# Altium integrated library Analog Devices Operational Amplifiers.IntLib: 2102 symbols (part 18 of 70)
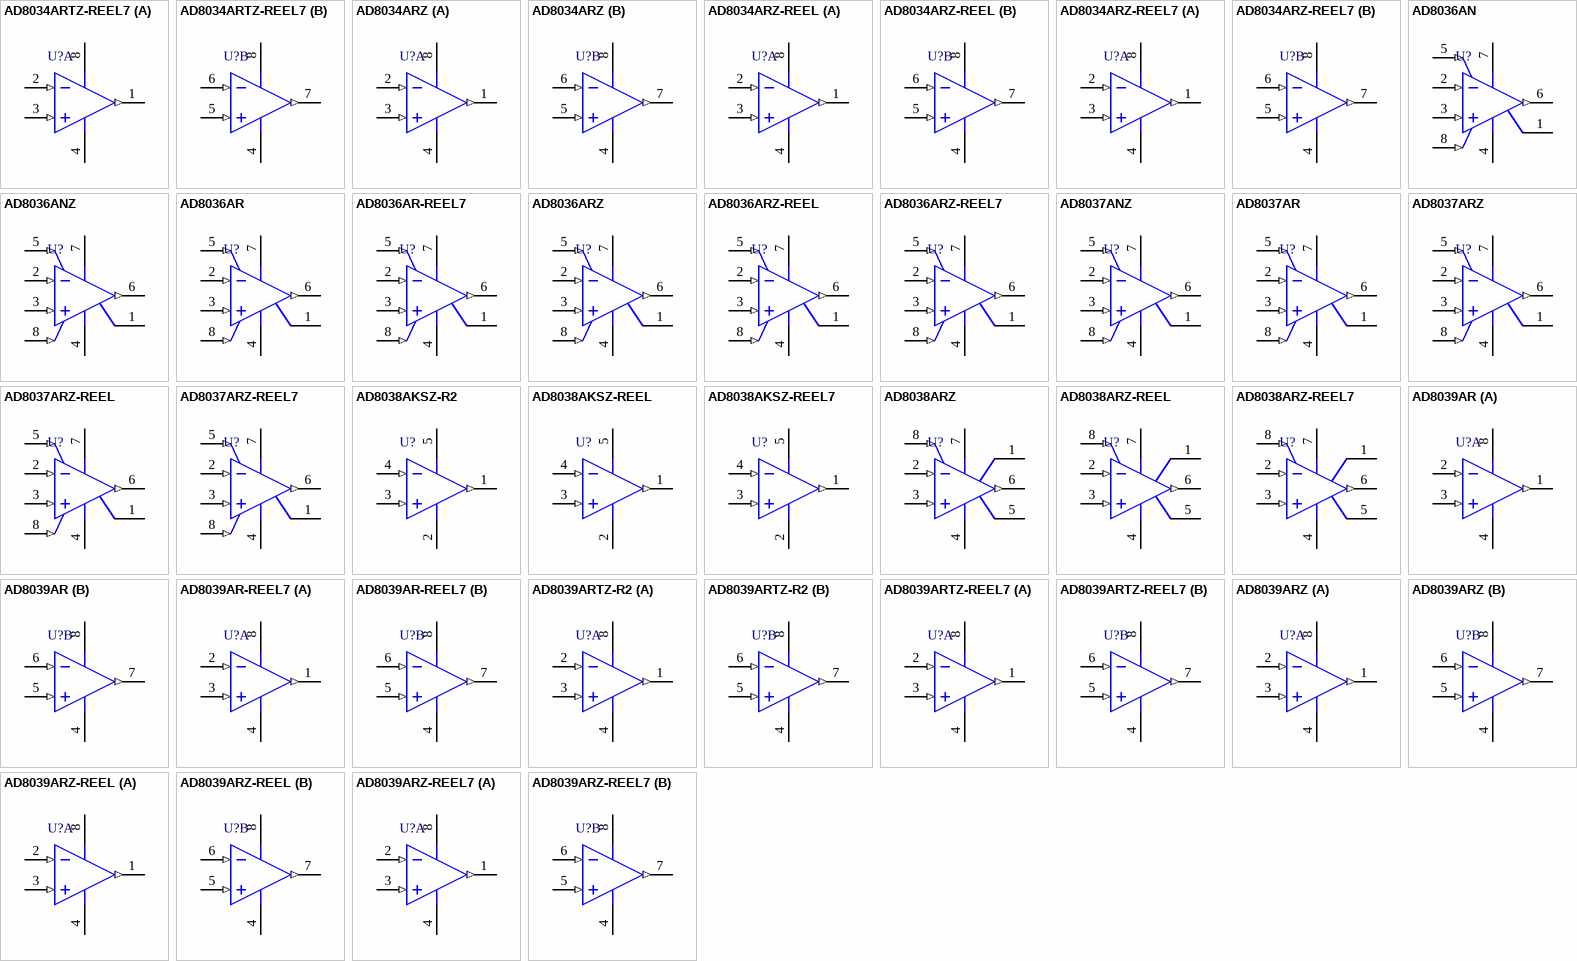
[diagram p131: symbols AD8034ARTZ-REEL7 to AD8039ARZ-REEL7]

## AD8038ARZ
designator U?
Single Channel Low Power Operational Amplifier, 350 MHz BW, 425 V/us SR, Industrial, 8-pin SOIC (R-8), Tube; Generic Part Number: AD8038; Manufacturer: Analog Devices; PartNumber: AD8038ARZ; Amplifiers Per Package: 1; Input Bias Current: 400nA; Input Offset Voltage: 500uV; Iq/Amp: 1.5mA; Small Signal Bandwidth: 350MHz; V Span Max: 12V; V Span Min: 3V; DatasheetVersion: Rev. G; PackageVersion: 060506-A; PackageReference: R-8; PackageDescription: 8-Pin Standard Small Outline Package, Body 3.9 x 4.9 mm, Pitch 1.27 mm; Supplier 1: Digi-Key; Supplier Part Number 1: AD8038ARZ-ND; Supplier 2: Farnell; Supplier Part Number 2: 1838881; Supplier 3: Newark; Supplier Part Number 3: 59K6260; Slew Rate: 425V/us; Mounting Technology: Surface Mount; Code_JEDEC: MS-012-AA; ComponentLink1Description: Manufacturer URL; ComponentLink1URL: http://www.analog.com/en/index.html; ComponentLink2Description: Datasheet; ComponentLink2URL: http://www.analog.com/static/imported-files/data_sheets/AD8038_8039.pdf; ComponentLink3Description: Package Specification; ComponentLink3URL: http://www.analog.com/static/imported-files/packages/PKG_PDF/SOIC_Narrow%20(R)/R_8.pdf; ComponentLink4Description: Reference Circuit; ComponentLink4URL: http://www.analog.com/en/all-operational-amplifiers-op-amps/operational-amplifiers-op-amps/ad8038/products/product.html#product-recommendations
footprint ADI-R-8_N (SOIC, 8-Leads, Body 4.9x3.9mm, Pitch 1.27mm, IPC Medium Density)
footprint ADI-R-8_L (SOIC, 8-Leads, Body 4.9x3.9mm, Pitch 1.27mm, IPC High Density)
footprint ADI-R-8_M (SOIC, 8-Leads, Body 4.9x3.9mm, Pitch 1.27mm, IPC Low Density)
pins: 1 NC, 2 -IN (in), 3 +IN (in), 4 -VS (power), 5 NC, 6 VOUT (out), 7 +VS (power), 8 ~{DISABLE} (in)

## AD8038ARZ-REEL
designator U?
Single Channel Low Power Operational Amplifier, 350 MHz BW, 425 V/us SR, Industrial, 8-pin SOIC (R-8), Reel; Generic Part Number: AD8038; Manufacturer: Analog Devices; PartNumber: AD8038ARZ-REEL; Amplifiers Per Package: 1; Input Bias Current: 400nA; Input Offset Voltage: 500uV; Iq/Amp: 1.5mA; Small Signal Bandwidth: 350MHz; V Span Max: 12V; V Span Min: 3V; DatasheetVersion: Rev. G; PackageVersion: 060506-A; PackageReference: R-8; PackageDescription: 8-Pin Standard Small Outline Package, Body 3.9 x 4.9 mm, Pitch 1.27 mm; Supplier 1: Digi-Key; Supplier Part Number 1: AD8038ARZ-REEL-ND; Supplier 2: Newark; Supplier Part Number 2: 59K6261; Slew Rate: 425V/us; Mounting Technology: Surface Mount; Code_JEDEC: MS-012-AA; ComponentLink1Description: Manufacturer URL; ComponentLink1URL: http://www.analog.com/en/index.html; ComponentLink2Description: Datasheet; ComponentLink2URL: http://www.analog.com/static/imported-files/data_sheets/AD8038_8039.pdf; ComponentLink3Description: Package Specification; ComponentLink3URL: http://www.analog.com/static/imported-files/packages/PKG_PDF/SOIC_Narrow%20(R)/R_8.pdf; ComponentLink4Description: Reference Circuit; ComponentLink4URL: http://www.analog.com/en/all-operational-amplifiers-op-amps/operational-amplifiers-op-amps/ad8038/products/product.html#product-recommendations
footprint ADI-R-8_N (SOIC, 8-Leads, Body 4.9x3.9mm, Pitch 1.27mm, IPC Medium Density)
footprint ADI-R-8_L (SOIC, 8-Leads, Body 4.9x3.9mm, Pitch 1.27mm, IPC High Density)
footprint ADI-R-8_M (SOIC, 8-Leads, Body 4.9x3.9mm, Pitch 1.27mm, IPC Low Density)
pins: 1 NC, 2 -IN (in), 3 +IN (in), 4 -VS (power), 5 NC, 6 VOUT (out), 7 +VS (power), 8 ~{DISABLE} (in)

## AD8038ARZ-REEL7
designator U?
Single Channel Low Power Operational Amplifier, 350 MHz BW, 425 V/us SR, Industrial, 8-pin SOIC (R-8), Reel; Generic Part Number: AD8038; Manufacturer: Analog Devices; PartNumber: AD8038ARZ-REEL7; Amplifiers Per Package: 1; Input Bias Current: 400nA; Input Offset Voltage: 500uV; Iq/Amp: 1.5mA; Small Signal Bandwidth: 350MHz; V Span Max: 12V; V Span Min: 3V; DatasheetVersion: Rev. G; PackageVersion: 060506-A; PackageReference: R-8; PackageDescription: 8-Pin Standard Small Outline Package, Body 3.9 x 4.9 mm, Pitch 1.27 mm; Supplier 1: Digi-Key; Supplier Part Number 1: AD8038ARZ-REEL7-ND; Slew Rate: 425V/us; Mounting Technology: Surface Mount; Code_JEDEC: MS-012-AA; ComponentLink1Description: Manufacturer URL; ComponentLink1URL: http://www.analog.com/en/index.html; ComponentLink2Description: Datasheet; ComponentLink2URL: http://www.analog.com/static/imported-files/data_sheets/AD8038_8039.pdf; ComponentLink3Description: Package Specification; ComponentLink3URL: http://www.analog.com/static/imported-files/packages/PKG_PDF/SOIC_Narrow%20(R)/R_8.pdf; ComponentLink4Description: Reference Circuit; ComponentLink4URL: http://www.analog.com/en/all-operational-amplifiers-op-amps/operational-amplifiers-op-amps/ad8038/products/product.html#product-recommendations
footprint ADI-R-8_N (SOIC, 8-Leads, Body 4.9x3.9mm, Pitch 1.27mm, IPC Medium Density)
footprint ADI-R-8_L (SOIC, 8-Leads, Body 4.9x3.9mm, Pitch 1.27mm, IPC High Density)
footprint ADI-R-8_M (SOIC, 8-Leads, Body 4.9x3.9mm, Pitch 1.27mm, IPC Low Density)
pins: 1 NC, 2 -IN (in), 3 +IN (in), 4 -VS (power), 5 NC, 6 VOUT (out), 7 +VS (power), 8 ~{DISABLE} (in)

## AD8039AR
designator U?
Double Channel Low Power Operational Amplifier, 350 MHz BW, 425 V/us SR, Industrial, 8-pin SOIC (R-8), Tube; Generic Part Number: AD8039; Manufacturer: Analog Devices; PartNumber: AD8039AR; Amplifiers Per Package: 2; Input Bias Current: 400nA; Input Offset Voltage: 500uV; Iq/Amp: 1.5mA; Small Signal Bandwidth: 350MHz; V Span Max: 12V; V Span Min: 3V; DatasheetVersion: Rev. G; PackageVersion: 060506-A; PackageReference: R-8; PackageDescription: 8-Pin Standard Small Outline Package, Body 3.9 x 4.9 mm, Pitch 1.27 mm; Supplier 1: Digi-Key; Supplier Part Number 1: AD8039AR-ND; Slew Rate: 425V/us; Mounting Technology: Surface Mount; Code_JEDEC: MS-012-AA; ComponentLink1Description: Manufacturer URL; ComponentLink1URL: http://www.analog.com/en/index.html; ComponentLink2Description: Datasheet; ComponentLink2URL: http://www.analog.com/static/imported-files/data_sheets/AD8038_8039.pdf; ComponentLink3Description: Package Specification; ComponentLink3URL: http://www.analog.com/static/imported-files/packages/PKG_PDF/SOIC_Narrow%20(R)/R_8.pdf
footprint ADI-R-8_N (SOIC, 8-Leads, Body 4.9x3.9mm, Pitch 1.27mm, IPC Medium Density)
footprint ADI-R-8_L (SOIC, 8-Leads, Body 4.9x3.9mm, Pitch 1.27mm, IPC High Density)
footprint ADI-R-8_M (SOIC, 8-Leads, Body 4.9x3.9mm, Pitch 1.27mm, IPC Low Density)
pins on every part: 4 -VS (power), 8 +VS (power)
part A pins: 1 VOUT 1 (out), 2 -IN 1 (in), 3 +IN 1 (in)
part B pins: 5 +IN 2 (in), 6 -IN 2 (in), 7 VOUT 2 (out)

## AD8039AR-REEL7
designator U?
Double Channel Low Power Operational Amplifier, 350 MHz BW, 425 V/us SR, Industrial, 8-pin SOIC (R-8), Reel; Generic Part Number: AD8039; Manufacturer: Analog Devices; PartNumber: AD8039AR-REEL7; Amplifiers Per Package: 2; Input Bias Current: 400nA; Input Offset Voltage: 500uV; Iq/Amp: 1.5mA; Small Signal Bandwidth: 350MHz; V Span Max: 12V; V Span Min: 3V; DatasheetVersion: Rev. G; PackageVersion: 060506-A; PackageReference: R-8; PackageDescription: 8-Pin Standard Small Outline Package, Body 3.9 x 4.9 mm, Pitch 1.27 mm; Supplier 1: Digi-Key; Supplier Part Number 1: AD8039AR-REEL7-ND; Supplier 2: Newark; Supplier Part Number 2: 02H1823; Slew Rate: 425V/us; Mounting Technology: Surface Mount; Code_JEDEC: MS-012-AA; ComponentLink1Description: Manufacturer URL; ComponentLink1URL: http://www.analog.com/en/index.html; ComponentLink2Description: Datasheet; ComponentLink2URL: http://www.analog.com/static/imported-files/data_sheets/AD8038_8039.pdf; ComponentLink3Description: Package Specification; ComponentLink3URL: http://www.analog.com/static/imported-files/packages/PKG_PDF/SOIC_Narrow%20(R)/R_8.pdf
footprint ADI-R-8_N (SOIC, 8-Leads, Body 4.9x3.9mm, Pitch 1.27mm, IPC Medium Density)
footprint ADI-R-8_L (SOIC, 8-Leads, Body 4.9x3.9mm, Pitch 1.27mm, IPC High Density)
footprint ADI-R-8_M (SOIC, 8-Leads, Body 4.9x3.9mm, Pitch 1.27mm, IPC Low Density)
pins on every part: 4 -VS (power), 8 +VS (power)
part A pins: 1 VOUT 1 (out), 2 -IN 1 (in), 3 +IN 1 (in)
part B pins: 5 +IN 2 (in), 6 -IN 2 (in), 7 VOUT 2 (out)

## AD8039ARTZ-R2
designator U?
Double Channel Low Power Operational Amplifier, 350 MHz BW, 425 V/us SR, Industrial, 8-pin SOT23 (RJ-8), Reel; Generic Part Number: AD8039; Manufacturer: Analog Devices; PartNumber: AD8039ARTZ-R2; Amplifiers Per Package: 2; Input Bias Current: 400nA; Input Offset Voltage: 500uV; Iq/Amp: 1.5mA; Small Signal Bandwidth: 350MHz; V Span Max: 12V; V Span Min: 3V; DatasheetVersion: Rev. G; PackageVersion: 121608-A; PackageReference: RJ-8; PackageDescription: 8-Pin Small Outline Transistor Package, Body 2.9 x 1.6 mm, Pitch 0.65 mm; Slew Rate: 425V/us; Mounting Technology: Surface Mount; Code_JEDEC: MO-178-BA; ComponentLink1Description: Manufacturer URL; ComponentLink1URL: http://www.analog.com/en/index.html; ComponentLink2Description: Datasheet; ComponentLink2URL: http://www.analog.com/static/imported-files/data_sheets/AD8038_8039.pdf; ComponentLink3Description: Package Specification; ComponentLink3URL: http://www.analog.com/static/imported-files/packages/PKG_PDF/SOT-23(RJ)/RJ_8.pdf
footprint ADI-RJ-8_V (SOT23, 8-Leads, Body 2.9x1.6mm, Pitch 0.65mm)
pins on every part: 4 -VS (power), 8 +VS (power)
part A pins: 1 VOUT 1 (out), 2 -IN 1 (in), 3 +IN 1 (in)
part B pins: 5 +IN 2 (in), 6 -IN 2 (in), 7 VOUT 2 (out)

## AD8039ARTZ-REEL7
designator U?
Double Channel Low Power Operational Amplifier, 350 MHz BW, 425 V/us SR, Industrial, 8-pin SOT23 (RJ-8), Reel; Generic Part Number: AD8039; Manufacturer: Analog Devices; PartNumber: AD8039ARTZ-REEL7; Amplifiers Per Package: 2; Input Bias Current: 400nA; Input Offset Voltage: 500uV; Iq/Amp: 1.5mA; Small Signal Bandwidth: 350MHz; V Span Max: 12V; V Span Min: 3V; DatasheetVersion: Rev. G; PackageVersion: 121608-A; PackageReference: RJ-8; PackageDescription: 8-Pin Small Outline Transistor Package, Body 2.9 x 1.6 mm, Pitch 0.65 mm; Supplier 1: Digi-Key; Supplier Part Number 1: AD8039ARTZREEL7TR-ND; Supplier 2: Digi-Key; Supplier Part Number 2: AD8039ARTZREEL7CT-ND; Supplier 3: Digi-Key; Supplier Part Number 3: AD8039ARTZREEL7DKR-ND; Supplier 4: Newark; Supplier Part Number 4: 67W2741; Supplier 5: Newark; Supplier Part Number 5: 59K6264; Slew Rate: 425V/us; Mounting Technology: Surface Mount; Code_JEDEC: MO-178-BA; ComponentLink1Description: Manufacturer URL; ComponentLink1URL: http://www.analog.com/en/index.html; ComponentLink2Description: Datasheet; ComponentLink2URL: http://www.analog.com/static/imported-files/data_sheets/AD8038_8039.pdf; ComponentLink3Description: Package Specification; ComponentLink3URL: http://www.analog.com/static/imported-files/packages/PKG_PDF/SOT-23(RJ)/RJ_8.pdf
footprint ADI-RJ-8_V (SOT23, 8-Leads, Body 2.9x1.6mm, Pitch 0.65mm)
pins on every part: 4 -VS (power), 8 +VS (power)
part A pins: 1 VOUT 1 (out), 2 -IN 1 (in), 3 +IN 1 (in)
part B pins: 5 +IN 2 (in), 6 -IN 2 (in), 7 VOUT 2 (out)

## AD8039ARZ
designator U?
Double Channel Low Power Operational Amplifier, 350 MHz BW, 425 V/us SR, Industrial, 8-pin SOIC (R-8), Tube; Generic Part Number: AD8039; Manufacturer: Analog Devices; PartNumber: AD8039ARZ; Amplifiers Per Package: 2; Input Bias Current: 400nA; Input Offset Voltage: 500uV; Iq/Amp: 1.5mA; Small Signal Bandwidth: 350MHz; V Span Max: 12V; V Span Min: 3V; DatasheetVersion: Rev. G; PackageVersion: 060506-A; PackageReference: R-8; PackageDescription: 8-Pin Standard Small Outline Package, Body 3.9 x 4.9 mm, Pitch 1.27 mm; Supplier 1: Digi-Key; Supplier Part Number 1: AD8039ARZ-ND; Supplier 2: Farnell; Supplier Part Number 2: 1581905; Supplier 3: Newark; Supplier Part Number 3: 59K6265; Slew Rate: 425V/us; Mounting Technology: Surface Mount; Code_JEDEC: MS-012-AA; ComponentLink1Description: Manufacturer URL; ComponentLink1URL: http://www.analog.com/en/index.html; ComponentLink2Description: Datasheet; ComponentLink2URL: http://www.analog.com/static/imported-files/data_sheets/AD8038_8039.pdf; ComponentLink3Description: Package Specification; ComponentLink3URL: http://www.analog.com/static/imported-files/packages/PKG_PDF/SOIC_Narrow%20(R)/R_8.pdf
footprint ADI-R-8_N (SOIC, 8-Leads, Body 4.9x3.9mm, Pitch 1.27mm, IPC Medium Density)
footprint ADI-R-8_L (SOIC, 8-Leads, Body 4.9x3.9mm, Pitch 1.27mm, IPC High Density)
footprint ADI-R-8_M (SOIC, 8-Leads, Body 4.9x3.9mm, Pitch 1.27mm, IPC Low Density)
pins on every part: 4 -VS (power), 8 +VS (power)
part A pins: 1 VOUT 1 (out), 2 -IN 1 (in), 3 +IN 1 (in)
part B pins: 5 +IN 2 (in), 6 -IN 2 (in), 7 VOUT 2 (out)

## AD8039ARZ-REEL
designator U?
Double Channel Low Power Operational Amplifier, 350 MHz BW, 425 V/us SR, Industrial, 8-pin SOIC (R-8), Reel; Generic Part Number: AD8039; Manufacturer: Analog Devices; PartNumber: AD8039ARZ-REEL; Amplifiers Per Package: 2; Input Bias Current: 400nA; Input Offset Voltage: 500uV; Iq/Amp: 1.5mA; Small Signal Bandwidth: 350MHz; V Span Max: 12V; V Span Min: 3V; DatasheetVersion: Rev. G; PackageVersion: 060506-A; PackageReference: R-8; PackageDescription: 8-Pin Standard Small Outline Package, Body 3.9 x 4.9 mm, Pitch 1.27 mm; Supplier 1: Digi-Key; Supplier Part Number 1: AD8039ARZ-REEL-ND; Slew Rate: 425V/us; Mounting Technology: Surface Mount; Code_JEDEC: MS-012-AA; ComponentLink1Description: Manufacturer URL; ComponentLink1URL: http://www.analog.com/en/index.html; ComponentLink2Description: Datasheet; ComponentLink2URL: http://www.analog.com/static/imported-files/data_sheets/AD8038_8039.pdf; ComponentLink3Description: Package Specification; ComponentLink3URL: http://www.analog.com/static/imported-files/packages/PKG_PDF/SOIC_Narrow%20(R)/R_8.pdf
footprint ADI-R-8_N (SOIC, 8-Leads, Body 4.9x3.9mm, Pitch 1.27mm, IPC Medium Density)
footprint ADI-R-8_L (SOIC, 8-Leads, Body 4.9x3.9mm, Pitch 1.27mm, IPC High Density)
footprint ADI-R-8_M (SOIC, 8-Leads, Body 4.9x3.9mm, Pitch 1.27mm, IPC Low Density)
pins on every part: 4 -VS (power), 8 +VS (power)
part A pins: 1 VOUT 1 (out), 2 -IN 1 (in), 3 +IN 1 (in)
part B pins: 5 +IN 2 (in), 6 -IN 2 (in), 7 VOUT 2 (out)

## AD8039ARZ-REEL7
designator U?
Double Channel Low Power Operational Amplifier, 350 MHz BW, 425 V/us SR, Industrial, 8-pin SOIC (R-8), Reel; Generic Part Number: AD8039; Manufacturer: Analog Devices; PartNumber: AD8039ARZ-REEL7; Amplifiers Per Package: 2; Input Bias Current: 400nA; Input Offset Voltage: 500uV; Iq/Amp: 1.5mA; Small Signal Bandwidth: 350MHz; V Span Max: 12V; V Span Min: 3V; DatasheetVersion: Rev. G; PackageVersion: 060506-A; PackageReference: R-8; PackageDescription: 8-Pin Standard Small Outline Package, Body 3.9 x 4.9 mm, Pitch 1.27 mm; Supplier 1: Digi-Key; Supplier Part Number 1: AD8039ARZ-REEL7TR-ND; Supplier 2: Digi-Key; Supplier Part Number 2: AD8039ARZ-REEL7CT-ND; Supplier 3: Digi-Key; Supplier Part Number 3: AD8039ARZ-REEL7DKR-ND; Supplier 4: Newark; Supplier Part Number 4: 59K6267; Slew Rate: 425V/us; Mounting Technology: Surface Mount; Code_JEDEC: MS-012-AA; ComponentLink1Description: Manufacturer URL; ComponentLink1URL: http://www.analog.com/en/index.html; ComponentLink2Description: Datasheet; ComponentLink2URL: http://www.analog.com/static/imported-files/data_sheets/AD8038_8039.pdf; ComponentLink3Description: Package Specification; ComponentLink3URL: http://www.analog.com/static/imported-files/packages/PKG_PDF/SOIC_Narrow%20(R)/R_8.pdf
footprint ADI-R-8_N (SOIC, 8-Leads, Body 4.9x3.9mm, Pitch 1.27mm, IPC Medium Density)
footprint ADI-R-8_L (SOIC, 8-Leads, Body 4.9x3.9mm, Pitch 1.27mm, IPC High Density)
footprint ADI-R-8_M (SOIC, 8-Leads, Body 4.9x3.9mm, Pitch 1.27mm, IPC Low Density)
pins on every part: 4 -VS (power), 8 +VS (power)
part A pins: 1 VOUT 1 (out), 2 -IN 1 (in), 3 +IN 1 (in)
part B pins: 5 +IN 2 (in), 6 -IN 2 (in), 7 VOUT 2 (out)

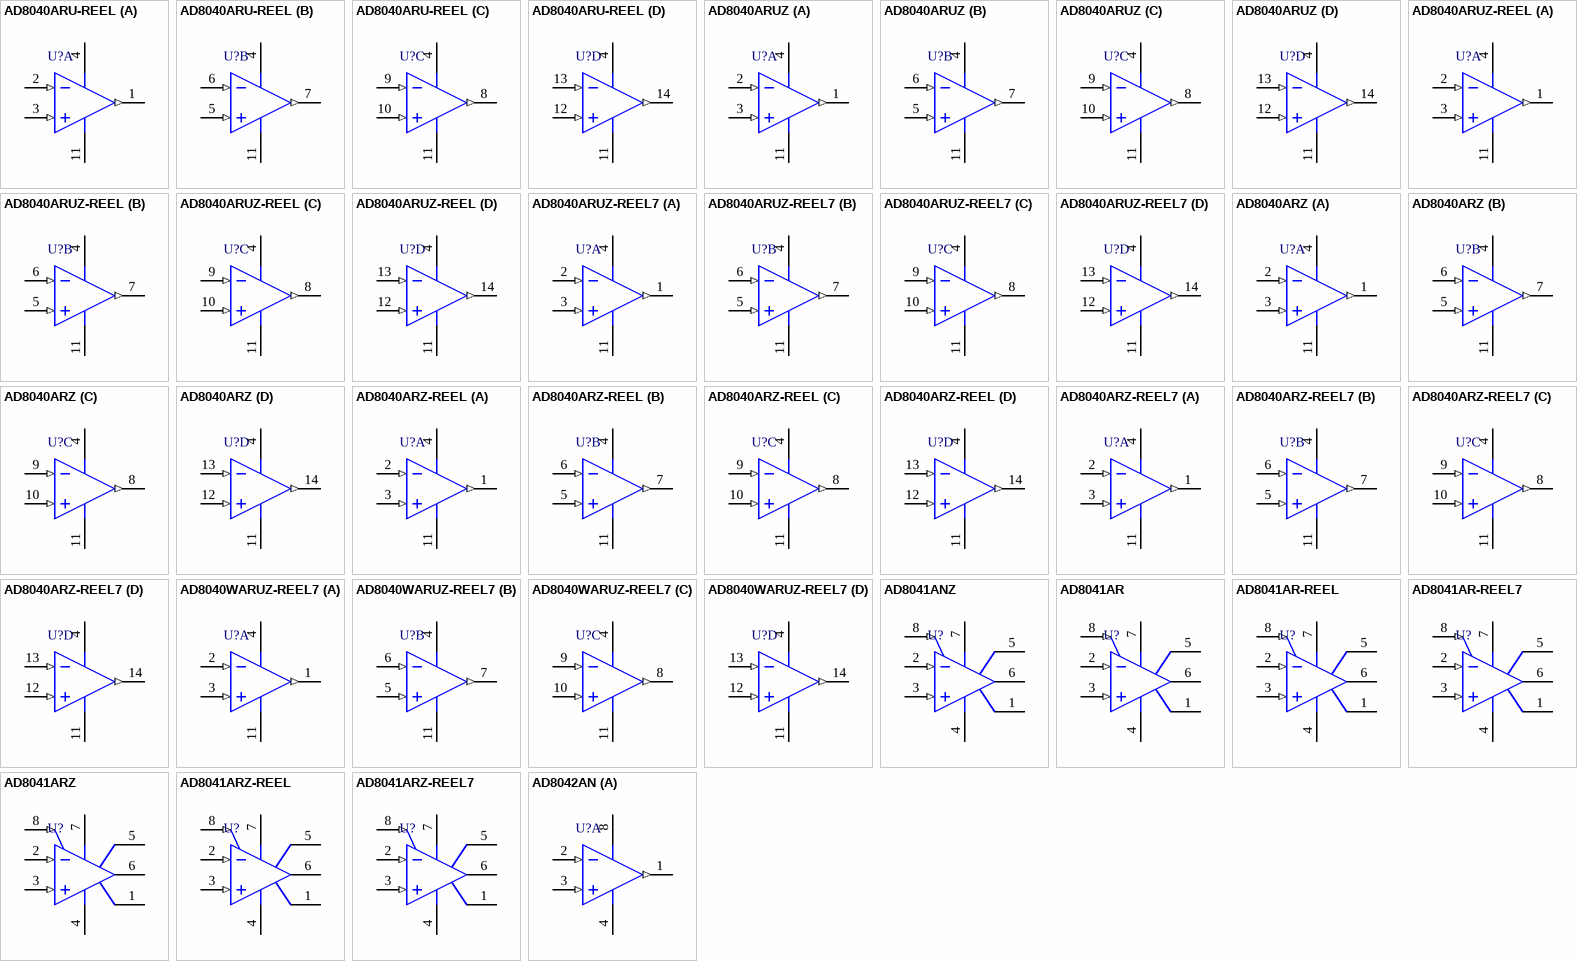
[diagram p26: symbols AD8040ARU-REEL to AD8042AN]

## AD8040ARU-REEL
designator U?
Quad Channel RRIO Operational Amplifier, 125 MHz BW, 62 V/us SR, Industrial, 14-pin SOP (RU-14), Reel; Generic Part Number: AD8040; Manufacturer: Analog Devices; PartNumber: AD8040ARU-REEL; Amplifiers Per Package: 4; Input Bias Current: 700nA; Input Offset Voltage: 1.6mV; Iq/Amp: 1.5mA; Slew Rate: 62V/us; Small Signal Bandwidth: 125MHz; V Span Max: 12V; V Span Min: 2.7V; DatasheetVersion: Rev. B; PackageReference: RU-14; PackageDescription: 14-Pin Thin Shrink Small Outline Package, Body 5 x 4.4 mm, Pitch 0.65 mm; Supplier 1: Digi-Key; Supplier Part Number 1: AD8040ARU-REEL-ND; Mounting Technology: Surface Mount; Code_JEDEC: MO-153AB-1; ComponentLink1Description: Manufacturer URL; ComponentLink1URL: http://www.analog.com/en/index.html; ComponentLink2Description: Datasheet; ComponentLink2URL: http://www.analog.com/static/imported-files/data_sheets/AD8029_8030_8040.pdf; ComponentLink3Description: Package Specification; ComponentLink3URL: http://www.analog.com/static/imported-files/packages/36057385283879153717235186773RU14.pdf
footprint ADI-RU-14_N (SOP, 14-Leads, Body 5x4.4mm, Pitch 0.65mm, IPC Medium Density)
footprint ADI-RU-14_L (SOP, 14-Leads, Body 5x4.4mm, Pitch 0.65mm, IPC High Density)
footprint ADI-RU-14_M (SOP, 14-Leads, Body 5x4.4mm, Pitch 0.65mm, IPC Low Density)
pins on every part: 4 +VS (power), 11 -VS (power)
part A pins: 1 VOUT 1 (out), 2 -IN 1 (in), 3 +IN 1 (in)
part B pins: 5 +IN 2 (in), 6 -IN 2 (in), 7 VOUT 2 (out)
part C pins: 8 VOUT 3 (out), 9 -IN 3 (in), 10 +IN 3 (in)
part D pins: 12 +IN 4 (in), 13 -IN 4 (in), 14 VOUT 4 (out)

## AD8040ARUZ
designator U?
Quad Channel RRIO Operational Amplifier, 125 MHz BW, 62 V/us SR, Industrial, 14-pin SOP (RU-14), Tube; Generic Part Number: AD8040; Manufacturer: Analog Devices; PartNumber: AD8040ARUZ; Amplifiers Per Package: 4; Input Bias Current: 700nA; Input Offset Voltage: 1.6mV; Iq/Amp: 1.5mA; Slew Rate: 62V/us; Small Signal Bandwidth: 125MHz; V Span Max: 12V; V Span Min: 2.7V; DatasheetVersion: Rev. B; PackageReference: RU-14; PackageDescription: 14-Pin Thin Shrink Small Outline Package, Body 5 x 4.4 mm, Pitch 0.65 mm; Mounting Technology: Surface Mount; Code_JEDEC: MO-153AB-1; ComponentLink1Description: Manufacturer URL; ComponentLink1URL: http://www.analog.com/en/index.html; ComponentLink2Description: Datasheet; ComponentLink2URL: http://www.analog.com/static/imported-files/data_sheets/AD8029_8030_8040.pdf; ComponentLink3Description: Package Specification; ComponentLink3URL: http://www.analog.com/static/imported-files/packages/36057385283879153717235186773RU14.pdf
footprint ADI-RU-14_N (SOP, 14-Leads, Body 5x4.4mm, Pitch 0.65mm, IPC Medium Density)
footprint ADI-RU-14_L (SOP, 14-Leads, Body 5x4.4mm, Pitch 0.65mm, IPC High Density)
footprint ADI-RU-14_M (SOP, 14-Leads, Body 5x4.4mm, Pitch 0.65mm, IPC Low Density)
pins on every part: 4 +VS (power), 11 -VS (power)
part A pins: 1 VOUT 1 (out), 2 -IN 1 (in), 3 +IN 1 (in)
part B pins: 5 +IN 2 (in), 6 -IN 2 (in), 7 VOUT 2 (out)
part C pins: 8 VOUT 3 (out), 9 -IN 3 (in), 10 +IN 3 (in)
part D pins: 12 +IN 4 (in), 13 -IN 4 (in), 14 VOUT 4 (out)

## AD8040ARUZ-REEL
designator U?
Quad Channel RRIO Operational Amplifier, 125 MHz BW, 62 V/us SR, Industrial, 14-pin SOP (RU-14), Reel; Generic Part Number: AD8040; Manufacturer: Analog Devices; PartNumber: AD8040ARUZ-REEL; Amplifiers Per Package: 4; Input Bias Current: 700nA; Input Offset Voltage: 1.6mV; Iq/Amp: 1.5mA; Slew Rate: 62V/us; Small Signal Bandwidth: 125MHz; V Span Max: 12V; V Span Min: 2.7V; DatasheetVersion: Rev. B; PackageReference: RU-14; PackageDescription: 14-Pin Thin Shrink Small Outline Package, Body 5 x 4.4 mm, Pitch 0.65 mm; Supplier 1: Digi-Key; Supplier Part Number 1: AD8040ARUZ-REEL-ND; Mounting Technology: Surface Mount; Code_JEDEC: MO-153AB-1; ComponentLink1Description: Manufacturer URL; ComponentLink1URL: http://www.analog.com/en/index.html; ComponentLink2Description: Datasheet; ComponentLink2URL: http://www.analog.com/static/imported-files/data_sheets/AD8029_8030_8040.pdf; ComponentLink3Description: Package Specification; ComponentLink3URL: http://www.analog.com/static/imported-files/packages/36057385283879153717235186773RU14.pdf
footprint ADI-RU-14_N (SOP, 14-Leads, Body 5x4.4mm, Pitch 0.65mm, IPC Medium Density)
footprint ADI-RU-14_L (SOP, 14-Leads, Body 5x4.4mm, Pitch 0.65mm, IPC High Density)
footprint ADI-RU-14_M (SOP, 14-Leads, Body 5x4.4mm, Pitch 0.65mm, IPC Low Density)
pins on every part: 4 +VS (power), 11 -VS (power)
part A pins: 1 VOUT 1 (out), 2 -IN 1 (in), 3 +IN 1 (in)
part B pins: 5 +IN 2 (in), 6 -IN 2 (in), 7 VOUT 2 (out)
part C pins: 8 VOUT 3 (out), 9 -IN 3 (in), 10 +IN 3 (in)
part D pins: 12 +IN 4 (in), 13 -IN 4 (in), 14 VOUT 4 (out)

## AD8040ARUZ-REEL7
designator U?
Quad Channel RRIO Operational Amplifier, 125 MHz BW, 62 V/us SR, Industrial, 14-pin SOP (RU-14), Reel; Generic Part Number: AD8040; Manufacturer: Analog Devices; PartNumber: AD8040ARUZ-REEL7; Amplifiers Per Package: 4; Input Bias Current: 700nA; Input Offset Voltage: 1.6mV; Iq/Amp: 1.5mA; Slew Rate: 62V/us; Small Signal Bandwidth: 125MHz; V Span Max: 12V; V Span Min: 2.7V; DatasheetVersion: Rev. B; PackageReference: RU-14; PackageDescription: 14-Pin Thin Shrink Small Outline Package, Body 5 x 4.4 mm, Pitch 0.65 mm; Supplier 1: Digi-Key; Supplier Part Number 1: AD8040ARUZ-REEL7TR-ND; Supplier 2: Digi-Key; Supplier Part Number 2: AD8040ARUZ-REEL7CT-ND; Supplier 3: Digi-Key; Supplier Part Number 3: AD8040ARUZ-REEL7DKR-ND; Supplier 4: Newark; Supplier Part Number 4: 59K6272; Mounting Technology: Surface Mount; Code_JEDEC: MO-153AB-1; ComponentLink1Description: Manufacturer URL; ComponentLink1URL: http://www.analog.com/en/index.html; ComponentLink2Description: Datasheet; ComponentLink2URL: http://www.analog.com/static/imported-files/data_sheets/AD8029_8030_8040.pdf; ComponentLink3Description: Package Specification; ComponentLink3URL: http://www.analog.com/static/imported-files/packages/36057385283879153717235186773RU14.pdf
footprint ADI-RU-14_N (SOP, 14-Leads, Body 5x4.4mm, Pitch 0.65mm, IPC Medium Density)
footprint ADI-RU-14_L (SOP, 14-Leads, Body 5x4.4mm, Pitch 0.65mm, IPC High Density)
footprint ADI-RU-14_M (SOP, 14-Leads, Body 5x4.4mm, Pitch 0.65mm, IPC Low Density)
pins on every part: 4 +VS (power), 11 -VS (power)
part A pins: 1 VOUT 1 (out), 2 -IN 1 (in), 3 +IN 1 (in)
part B pins: 5 +IN 2 (in), 6 -IN 2 (in), 7 VOUT 2 (out)
part C pins: 8 VOUT 3 (out), 9 -IN 3 (in), 10 +IN 3 (in)
part D pins: 12 +IN 4 (in), 13 -IN 4 (in), 14 VOUT 4 (out)

## AD8040ARZ
designator U?
Quad Channel RRIO Operational Amplifier, 125 MHz BW, 62 V/us SR, Industrial, 14-pin SOIC (R-14), Tube; Generic Part Number: AD8040; Manufacturer: Analog Devices; PartNumber: AD8040ARZ; Amplifiers Per Package: 4; Input Bias Current: 700nA; Input Offset Voltage: 1.6mV; Iq/Amp: 1.5mA; Slew Rate: 62V/us; Small Signal Bandwidth: 125MHz; V Span Max: 12V; V Span Min: 2.7V; DatasheetVersion: Rev. B; PackageVersion: 060606-A; PackageReference: R-14; PackageDescription: 14-Pin Standard Small Outline Package, Body 8.65 x 3.9 mm, Pitch 1.27 mm; Supplier 1: Digi-Key; Supplier Part Number 1: AD8040ARZ-ND; Supplier 2: Farnell; Supplier Part Number 2: 8397830; Supplier 3: Newark; Supplier Part Number 3: 19M0919; Mounting Technology: Surface Mount; Code_JEDEC: MS-012-AB; ComponentLink1Description: Manufacturer URL; ComponentLink1URL: http://www.analog.com/en/index.html; ComponentLink2Description: Datasheet; ComponentLink2URL: http://www.analog.com/static/imported-files/data_sheets/AD8029_8030_8040.pdf; ComponentLink3Description: Package Specification; ComponentLink3URL: http://www.analog.com/static/imported-files/packages/PKG_PDF/SOIC_Narrow%20(R)/R_14.pdf
footprint ADI-R-14_N (SOIC, 14-Leads, Body 8.65x3.9mm, Pitch 1.27mm, IPC Medium Density)
footprint ADI-R-14_L (SOIC, 14-Leads, Body 8.65x3.9mm, Pitch 1.27mm, IPC High Density)
footprint ADI-R-14_M (SOIC, 14-Leads, Body 8.65x3.9mm, Pitch 1.27mm, IPC Low Density)
pins on every part: 4 +VS (power), 11 -VS (power)
part A pins: 1 VOUT 1 (out), 2 -IN 1 (in), 3 +IN 1 (in)
part B pins: 5 +IN 2 (in), 6 -IN 2 (in), 7 VOUT 2 (out)
part C pins: 8 VOUT 3 (out), 9 -IN 3 (in), 10 +IN 3 (in)
part D pins: 12 +IN 4 (in), 13 -IN 4 (in), 14 VOUT 4 (out)

## AD8040ARZ-REEL
designator U?
Quad Channel RRIO Operational Amplifier, 125 MHz BW, 62 V/us SR, Industrial, 14-pin SOIC (R-14), Reel; Generic Part Number: AD8040; Manufacturer: Analog Devices; PartNumber: AD8040ARZ-REEL; Amplifiers Per Package: 4; Input Bias Current: 700nA; Input Offset Voltage: 1.6mV; Iq/Amp: 1.5mA; Slew Rate: 62V/us; Small Signal Bandwidth: 125MHz; V Span Max: 12V; V Span Min: 2.7V; DatasheetVersion: Rev. B; PackageVersion: 060606-A; PackageReference: R-14; PackageDescription: 14-Pin Standard Small Outline Package, Body 8.65 x 3.9 mm, Pitch 1.27 mm; Supplier 1: Digi-Key; Supplier Part Number 1: AD8040ARZ-REEL-ND; Mounting Technology: Surface Mount; Code_JEDEC: MS-012-AB; ComponentLink1Description: Manufacturer URL; ComponentLink1URL: http://www.analog.com/en/index.html; ComponentLink2Description: Datasheet; ComponentLink2URL: http://www.analog.com/static/imported-files/data_sheets/AD8029_8030_8040.pdf; ComponentLink3Description: Package Specification; ComponentLink3URL: http://www.analog.com/static/imported-files/packages/PKG_PDF/SOIC_Narrow%20(R)/R_14.pdf
footprint ADI-R-14_N (SOIC, 14-Leads, Body 8.65x3.9mm, Pitch 1.27mm, IPC Medium Density)
footprint ADI-R-14_L (SOIC, 14-Leads, Body 8.65x3.9mm, Pitch 1.27mm, IPC High Density)
footprint ADI-R-14_M (SOIC, 14-Leads, Body 8.65x3.9mm, Pitch 1.27mm, IPC Low Density)
pins on every part: 4 +VS (power), 11 -VS (power)
part A pins: 1 VOUT 1 (out), 2 -IN 1 (in), 3 +IN 1 (in)
part B pins: 5 +IN 2 (in), 6 -IN 2 (in), 7 VOUT 2 (out)
part C pins: 8 VOUT 3 (out), 9 -IN 3 (in), 10 +IN 3 (in)
part D pins: 12 +IN 4 (in), 13 -IN 4 (in), 14 VOUT 4 (out)

## AD8040ARZ-REEL7
designator U?
Quad Channel RRIO Operational Amplifier, 125 MHz BW, 62 V/us SR, Industrial, 14-pin SOIC (R-14), Reel; Generic Part Number: AD8040; Manufacturer: Analog Devices; PartNumber: AD8040ARZ-REEL7; Amplifiers Per Package: 4; Input Bias Current: 700nA; Input Offset Voltage: 1.6mV; Iq/Amp: 1.5mA; Slew Rate: 62V/us; Small Signal Bandwidth: 125MHz; V Span Max: 12V; V Span Min: 2.7V; DatasheetVersion: Rev. B; PackageVersion: 060606-A; PackageReference: R-14; PackageDescription: 14-Pin Standard Small Outline Package, Body 8.65 x 3.9 mm, Pitch 1.27 mm; Supplier 1: Digi-Key; Supplier Part Number 1: AD8040ARZ-REEL7-ND; Mounting Technology: Surface Mount; Code_JEDEC: MS-012-AB; ComponentLink1Description: Manufacturer URL; ComponentLink1URL: http://www.analog.com/en/index.html; ComponentLink2Description: Datasheet; ComponentLink2URL: http://www.analog.com/static/imported-files/data_sheets/AD8029_8030_8040.pdf; ComponentLink3Description: Package Specification; ComponentLink3URL: http://www.analog.com/static/imported-files/packages/PKG_PDF/SOIC_Narrow%20(R)/R_14.pdf
footprint ADI-R-14_N (SOIC, 14-Leads, Body 8.65x3.9mm, Pitch 1.27mm, IPC Medium Density)
footprint ADI-R-14_L (SOIC, 14-Leads, Body 8.65x3.9mm, Pitch 1.27mm, IPC High Density)
footprint ADI-R-14_M (SOIC, 14-Leads, Body 8.65x3.9mm, Pitch 1.27mm, IPC Low Density)
pins on every part: 4 +VS (power), 11 -VS (power)
part A pins: 1 VOUT 1 (out), 2 -IN 1 (in), 3 +IN 1 (in)
part B pins: 5 +IN 2 (in), 6 -IN 2 (in), 7 VOUT 2 (out)
part C pins: 8 VOUT 3 (out), 9 -IN 3 (in), 10 +IN 3 (in)
part D pins: 12 +IN 4 (in), 13 -IN 4 (in), 14 VOUT 4 (out)

## AD8040WARUZ-REEL7
designator U?
Quad Channel RRIO Operational Amplifier, 125 MHz BW, 62 V/us SR, 14-pin SOP (RU-14), Reel; Generic Part Number: AD8040; Manufacturer: Analog Devices; PartNumber: AD8040WARUZ-REEL7; Amplifiers Per Package: 4; Input Bias Current: 700nA; Input Offset Voltage: 1.6mV; Iq/Amp: 1.5mA; Slew Rate: 62V/us; Small Signal Bandwidth: 125MHz; V Span Max: 12V; V Span Min: 2.7V; DatasheetVersion: Rev. B; PackageReference: RU-14; PackageDescription: 14-Pin Thin Shrink Small Outline Package, Body 5 x 4.4 mm, Pitch 0.65 mm; Supplier 1: Digi-Key; Supplier Part Number 1: AD8040WARUZ-REEL7-ND; Supplier 2: Newark; Supplier Part Number 2: 52W9433; Mounting Technology: Surface Mount; Code_JEDEC: MO-153AB-1; ComponentLink1Description: Manufacturer URL; ComponentLink1URL: http://www.analog.com/en/index.html; ComponentLink2Description: Datasheet; ComponentLink2URL: http://www.analog.com/static/imported-files/data_sheets/AD8029_8030_8040.pdf; ComponentLink3Description: Package Specification; ComponentLink3URL: http://www.analog.com/static/imported-files/packages/36057385283879153717235186773RU14.pdf
footprint ADI-RU-14_N (SOP, 14-Leads, Body 5x4.4mm, Pitch 0.65mm, IPC Medium Density)
footprint ADI-RU-14_L (SOP, 14-Leads, Body 5x4.4mm, Pitch 0.65mm, IPC High Density)
footprint ADI-RU-14_M (SOP, 14-Leads, Body 5x4.4mm, Pitch 0.65mm, IPC Low Density)
pins on every part: 4 +VS (power), 11 -VS (power)
part A pins: 1 VOUT 1 (out), 2 -IN 1 (in), 3 +IN 1 (in)
part B pins: 5 +IN 2 (in), 6 -IN 2 (in), 7 VOUT 2 (out)
part C pins: 8 VOUT 3 (out), 9 -IN 3 (in), 10 +IN 3 (in)
part D pins: 12 +IN 4 (in), 13 -IN 4 (in), 14 VOUT 4 (out)

## AD8041ANZ
designator U?
Single Channel Low Power Operational Amplifier, 170 MHz BW, 170 V/us SR, Industrial, 8-pin DIP (N-8), Tube; Generic Part Number: AD8041; Manufacturer: Analog Devices; PartNumber: AD8041ANZ; Amplifiers Per Package: 1; Input Bias Current: 1.2uA; Input Offset Voltage: 2mV; Iq/Amp: 6.5mA; Small Signal Bandwidth: 170MHz; V Span Max: 12V; V Span Min: 3V; DatasheetVersion: Rev. B; PackageVersion: 070606-A; PackageReference: N-8; PackageDescription: 8-Pin Plastic Dual In-Line Package, Row spacing 7.62 mm, Pitch 2.54 mm; Supplier 1: Digi-Key; Supplier Part Number 1: AD8041ANZ-ND; Supplier 2: Farnell; Supplier Part Number 2: 1438577; Supplier 3: Newark; Supplier Part Number 3: 15P0923; Supplier 4: Newark; Supplier Part Number 4: 59K6276; Slew Rate: 170V/us; Mounting Technology: Through Hole; Code_JEDEC: MS-001; ComponentLink1Description: Manufacturer URL; ComponentLink1URL: http://www.analog.com/en/index.html; ComponentLink2Description: Datasheet; ComponentLink2URL: http://www.analog.com/static/imported-files/data_sheets/AD8041.pdf; ComponentLink3Description: Package Specification; ComponentLink3URL: http:/www.analog.com/static/imported-files/packages/PKG_PDF/PDIP(N)/N_8.pdf
footprint ADI-N-8 (DIP, 8-Leads, Body 9.59x6.6mm, Pitch 2.54mm)
pins: 1 NC, 2 -INPUT (in), 3 +INPUT (in), 4 -VS (power), 5 NC, 6 OUTPUT (hiz), 7 +VS (power), 8 ~{DISABLE} (in)

## AD8041AR
designator U?
Single Channel Low Power Operational Amplifier, 170 MHz BW, 170 V/us SR, Industrial, 8-pin SOIC (R-8), Tube; Generic Part Number: AD8041; Manufacturer: Analog Devices; PartNumber: AD8041AR; Amplifiers Per Package: 1; Input Bias Current: 1.2uA; Input Offset Voltage: 2mV; Iq/Amp: 6.5mA; Small Signal Bandwidth: 170MHz; V Span Max: 12V; V Span Min: 3V; DatasheetVersion: Rev. B; PackageVersion: 060506-A; PackageReference: R-8; PackageDescription: 8-Pin Standard Small Outline Package, Body 3.9 x 4.9 mm, Pitch 1.27 mm; Supplier 1: Digi-Key; Supplier Part Number 1: AD8041AR-ND; Slew Rate: 170V/us; Mounting Technology: Surface Mount; Code_JEDEC: MS-012-AA; ComponentLink1Description: Manufacturer URL; ComponentLink1URL: http://www.analog.com/en/index.html; ComponentLink2Description: Datasheet; ComponentLink2URL: http://www.analog.com/static/imported-files/data_sheets/AD8041.pdf; ComponentLink3Description: Package Specification; ComponentLink3URL: http://www.analog.com/static/imported-files/packages/PKG_PDF/SOIC_Narrow%20(R)/R_8.pdf
footprint ADI-R-8_N (SOIC, 8-Leads, Body 4.9x3.9mm, Pitch 1.27mm, IPC Medium Density)
footprint ADI-R-8_L (SOIC, 8-Leads, Body 4.9x3.9mm, Pitch 1.27mm, IPC High Density)
footprint ADI-R-8_M (SOIC, 8-Leads, Body 4.9x3.9mm, Pitch 1.27mm, IPC Low Density)
pins: 1 NC, 2 -INPUT (in), 3 +INPUT (in), 4 -VS (power), 5 NC, 6 OUTPUT (hiz), 7 +VS (power), 8 ~{DISABLE} (in)

## AD8041AR-REEL
designator U?
Single Channel Low Power Operational Amplifier, 170 MHz BW, 170 V/us SR, Industrial, 8-pin SOIC (R-8), Reel; Generic Part Number: AD8041; Manufacturer: Analog Devices; PartNumber: AD8041AR-REEL; Amplifiers Per Package: 1; Input Bias Current: 1.2uA; Input Offset Voltage: 2mV; Iq/Amp: 6.5mA; Small Signal Bandwidth: 170MHz; V Span Max: 12V; V Span Min: 3V; DatasheetVersion: Rev. B; PackageVersion: 060506-A; PackageReference: R-8; PackageDescription: 8-Pin Standard Small Outline Package, Body 3.9 x 4.9 mm, Pitch 1.27 mm; Supplier 1: Digi-Key; Supplier Part Number 1: AD8041AR-REEL-ND; Supplier 2: Newark; Supplier Part Number 2: 09B6389; Slew Rate: 170V/us; Mounting Technology: Surface Mount; Code_JEDEC: MS-012-AA; ComponentLink1Description: Manufacturer URL; ComponentLink1URL: http://www.analog.com/en/index.html; ComponentLink2Description: Datasheet; ComponentLink2URL: http://www.analog.com/static/imported-files/data_sheets/AD8041.pdf; ComponentLink3Description: Package Specification; ComponentLink3URL: http://www.analog.com/static/imported-files/packages/PKG_PDF/SOIC_Narrow%20(R)/R_8.pdf
footprint ADI-R-8_N (SOIC, 8-Leads, Body 4.9x3.9mm, Pitch 1.27mm, IPC Medium Density)
footprint ADI-R-8_L (SOIC, 8-Leads, Body 4.9x3.9mm, Pitch 1.27mm, IPC High Density)
footprint ADI-R-8_M (SOIC, 8-Leads, Body 4.9x3.9mm, Pitch 1.27mm, IPC Low Density)
pins: 1 NC, 2 -INPUT (in), 3 +INPUT (in), 4 -VS (power), 5 NC, 6 OUTPUT (hiz), 7 +VS (power), 8 ~{DISABLE} (in)

## AD8041AR-REEL7
designator U?
Single Channel Low Power Operational Amplifier, 170 MHz BW, 170 V/us SR, Industrial, 8-pin SOIC (R-8), Reel; Generic Part Number: AD8041; Manufacturer: Analog Devices; PartNumber: AD8041AR-REEL7; Amplifiers Per Package: 1; Input Bias Current: 1.2uA; Input Offset Voltage: 2mV; Iq/Amp: 6.5mA; Small Signal Bandwidth: 170MHz; V Span Max: 12V; V Span Min: 3V; DatasheetVersion: Rev. B; PackageVersion: 060506-A; PackageReference: R-8; PackageDescription: 8-Pin Standard Small Outline Package, Body 3.9 x 4.9 mm, Pitch 1.27 mm; Supplier 1: Digi-Key; Supplier Part Number 1: AD8041AR-REEL7-ND; Supplier 2: Newark; Supplier Part Number 2: 09B6390; Slew Rate: 170V/us; Mounting Technology: Surface Mount; Code_JEDEC: MS-012-AA; ComponentLink1Description: Manufacturer URL; ComponentLink1URL: http://www.analog.com/en/index.html; ComponentLink2Description: Datasheet; ComponentLink2URL: http://www.analog.com/static/imported-files/data_sheets/AD8041.pdf; ComponentLink3Description: Package Specification; ComponentLink3URL: http://www.analog.com/static/imported-files/packages/PKG_PDF/SOIC_Narrow%20(R)/R_8.pdf
footprint ADI-R-8_N (SOIC, 8-Leads, Body 4.9x3.9mm, Pitch 1.27mm, IPC Medium Density)
footprint ADI-R-8_L (SOIC, 8-Leads, Body 4.9x3.9mm, Pitch 1.27mm, IPC High Density)
footprint ADI-R-8_M (SOIC, 8-Leads, Body 4.9x3.9mm, Pitch 1.27mm, IPC Low Density)
pins: 1 NC, 2 -INPUT (in), 3 +INPUT (in), 4 -VS (power), 5 NC, 6 OUTPUT (hiz), 7 +VS (power), 8 ~{DISABLE} (in)

## AD8041ARZ
designator U?
Single Channel Low Power Operational Amplifier, 170 MHz BW, 170 V/us SR, Industrial, 8-pin SOIC (R-8), Tube; Generic Part Number: AD8041; Manufacturer: Analog Devices; PartNumber: AD8041ARZ; Amplifiers Per Package: 1; Input Bias Current: 1.2uA; Input Offset Voltage: 2mV; Iq/Amp: 6.5mA; Small Signal Bandwidth: 170MHz; V Span Max: 12V; V Span Min: 3V; DatasheetVersion: Rev. B; PackageVersion: 060506-A; PackageReference: R-8; PackageDescription: 8-Pin Standard Small Outline Package, Body 3.9 x 4.9 mm, Pitch 1.27 mm; Supplier 1: Digi-Key; Supplier Part Number 1: AD8041ARZ-ND; Supplier 2: Farnell; Supplier Part Number 2: 1660976; Supplier 3: Newark; Supplier Part Number 3: 88H0130; Slew Rate: 170V/us; Mounting Technology: Surface Mount; Code_JEDEC: MS-012-AA; ComponentLink1Description: Manufacturer URL; ComponentLink1URL: http://www.analog.com/en/index.html; ComponentLink2Description: Datasheet; ComponentLink2URL: http://www.analog.com/static/imported-files/data_sheets/AD8041.pdf; ComponentLink3Description: Package Specification; ComponentLink3URL: http://www.analog.com/static/imported-files/packages/PKG_PDF/SOIC_Narrow%20(R)/R_8.pdf
footprint ADI-R-8_N (SOIC, 8-Leads, Body 4.9x3.9mm, Pitch 1.27mm, IPC Medium Density)
footprint ADI-R-8_L (SOIC, 8-Leads, Body 4.9x3.9mm, Pitch 1.27mm, IPC High Density)
footprint ADI-R-8_M (SOIC, 8-Leads, Body 4.9x3.9mm, Pitch 1.27mm, IPC Low Density)
pins: 1 NC, 2 -INPUT (in), 3 +INPUT (in), 4 -VS (power), 5 NC, 6 OUTPUT (hiz), 7 +VS (power), 8 ~{DISABLE} (in)

## AD8041ARZ-REEL
designator U?
Single Channel Low Power Operational Amplifier, 170 MHz BW, 170 V/us SR, Industrial, 8-pin SOIC (R-8), Reel; Generic Part Number: AD8041; Manufacturer: Analog Devices; PartNumber: AD8041ARZ-REEL; Amplifiers Per Package: 1; Input Bias Current: 1.2uA; Input Offset Voltage: 2mV; Iq/Amp: 6.5mA; Small Signal Bandwidth: 170MHz; V Span Max: 12V; V Span Min: 3V; DatasheetVersion: Rev. B; PackageVersion: 060506-A; PackageReference: R-8; PackageDescription: 8-Pin Standard Small Outline Package, Body 3.9 x 4.9 mm, Pitch 1.27 mm; Supplier 1: Digi-Key; Supplier Part Number 1: AD8041ARZ-REEL-ND; Supplier 2: Newark; Supplier Part Number 2: 68H9061; Slew Rate: 170V/us; Mounting Technology: Surface Mount; Code_JEDEC: MS-012-AA; ComponentLink1Description: Manufacturer URL; ComponentLink1URL: http://www.analog.com/en/index.html; ComponentLink2Description: Datasheet; ComponentLink2URL: http://www.analog.com/static/imported-files/data_sheets/AD8041.pdf; ComponentLink3Description: Package Specification; ComponentLink3URL: http://www.analog.com/static/imported-files/packages/PKG_PDF/SOIC_Narrow%20(R)/R_8.pdf
footprint ADI-R-8_N (SOIC, 8-Leads, Body 4.9x3.9mm, Pitch 1.27mm, IPC Medium Density)
footprint ADI-R-8_L (SOIC, 8-Leads, Body 4.9x3.9mm, Pitch 1.27mm, IPC High Density)
footprint ADI-R-8_M (SOIC, 8-Leads, Body 4.9x3.9mm, Pitch 1.27mm, IPC Low Density)
pins: 1 NC, 2 -INPUT (in), 3 +INPUT (in), 4 -VS (power), 5 NC, 6 OUTPUT (hiz), 7 +VS (power), 8 ~{DISABLE} (in)

## AD8041ARZ-REEL7
designator U?
Single Channel Low Power Operational Amplifier, 170 MHz BW, 170 V/us SR, Industrial, 8-pin SOIC (R-8), Reel; Generic Part Number: AD8041; Manufacturer: Analog Devices; PartNumber: AD8041ARZ-REEL7; Amplifiers Per Package: 1; Input Bias Current: 1.2uA; Input Offset Voltage: 2mV; Iq/Amp: 6.5mA; Small Signal Bandwidth: 170MHz; V Span Max: 12V; V Span Min: 3V; DatasheetVersion: Rev. B; PackageVersion: 060506-A; PackageReference: R-8; PackageDescription: 8-Pin Standard Small Outline Package, Body 3.9 x 4.9 mm, Pitch 1.27 mm; Supplier 1: Digi-Key; Supplier Part Number 1: AD8041ARZ-REEL7-ND; Supplier 2: Newark; Supplier Part Number 2: 88H0131; Slew Rate: 170V/us; Mounting Technology: Surface Mount; Code_JEDEC: MS-012-AA; ComponentLink1Description: Manufacturer URL; ComponentLink1URL: http://www.analog.com/en/index.html; ComponentLink2Description: Datasheet; ComponentLink2URL: http://www.analog.com/static/imported-files/data_sheets/AD8041.pdf; ComponentLink3Description: Package Specification; ComponentLink3URL: http://www.analog.com/static/imported-files/packages/PKG_PDF/SOIC_Narrow%20(R)/R_8.pdf
footprint ADI-R-8_N (SOIC, 8-Leads, Body 4.9x3.9mm, Pitch 1.27mm, IPC Medium Density)
footprint ADI-R-8_L (SOIC, 8-Leads, Body 4.9x3.9mm, Pitch 1.27mm, IPC High Density)
footprint ADI-R-8_M (SOIC, 8-Leads, Body 4.9x3.9mm, Pitch 1.27mm, IPC Low Density)
pins: 1 NC, 2 -INPUT (in), 3 +INPUT (in), 4 -VS (power), 5 NC, 6 OUTPUT (hiz), 7 +VS (power), 8 ~{DISABLE} (in)

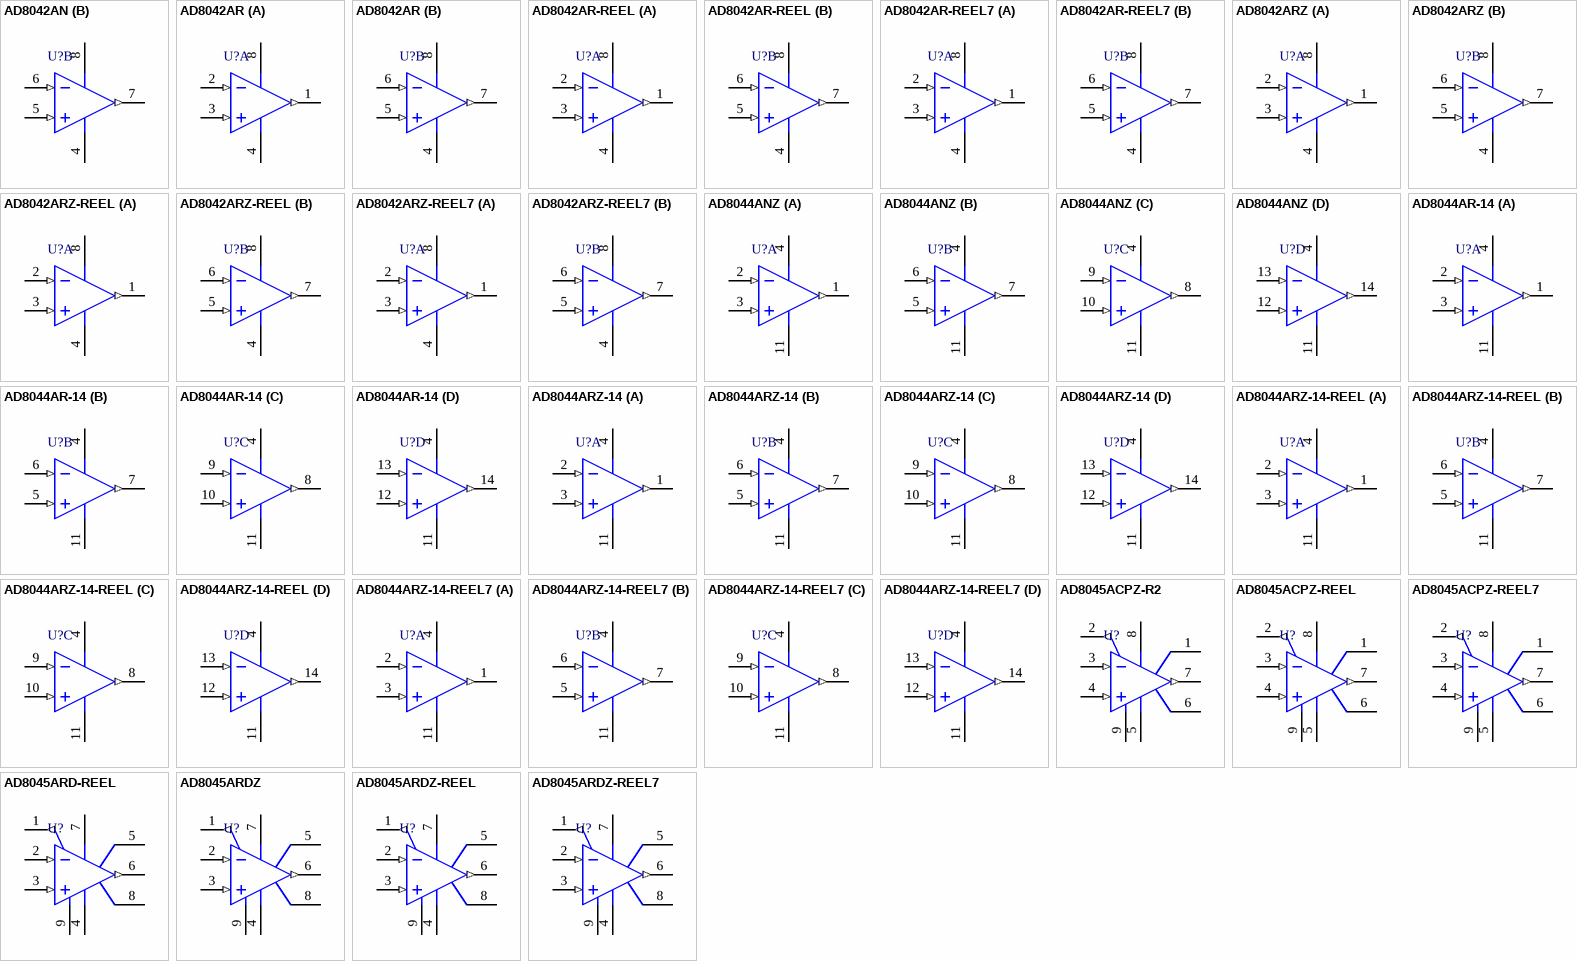
[diagram p27: symbols AD8042AN to AD8045ARDZ-REEL7]

## AD8042AN
designator U?
Double Channel Low Power Operational Amplifier, 170 MHz BW, 225 V/us SR, Industrial, 8-pin DIP (N-8), Tube; Generic Part Number: AD8042; Manufacturer: Analog Devices; PartNumber: AD8042AN; Amplifiers Per Package: 2; Input Bias Current: 1.2uA; Input Offset Voltage: 3mV; Iq/Amp: 7mA; Small Signal Bandwidth: 170MHz; V Span Max: 12V; V Span Min: 3V; DatasheetVersion: Rev. E; PackageVersion: 070606-A; PackageReference: N-8; PackageDescription: 8-Pin Plastic Dual In-Line Package, Row spacing 7.62 mm, Pitch 2.54 mm; Supplier 1: Digi-Key; Supplier Part Number 1: AD8042AN-ND; Supplier 2: Newark; Supplier Part Number 2: 52F8033; Slew Rate: 225V/us; Mounting Technology: Through Hole; Code_JEDEC: MS-001; ComponentLink1Description: Manufacturer URL; ComponentLink1URL: http://www.analog.com/en/index.html; ComponentLink2Description: Datasheet; ComponentLink2URL: http://www.analog.com/static/imported-files/data_sheets/AD8042.pdf; ComponentLink3Description: Package Specification; ComponentLink3URL: http:/www.analog.com/static/imported-files/packages/PKG_PDF/PDIP(N)/N_8.pdf; ComponentLink4Description: Reference Circuit; ComponentLink4URL: http://www.analog.com/en/all-operational-amplifiers-op-amps/operational-amplifiers-op-amps/ad8042/products/product.html#product-recommendations
footprint ADI-N-8 (DIP, 8-Leads, Body 9.59x6.6mm, Pitch 2.54mm)
pins on every part: 4 -VS (power), 8 +VS (power)
part A pins: 1 OUT 1 (out), 2 -IN 1 (in), 3 +IN 1 (in)
part B pins: 5 +IN 2 (in), 6 -IN 2 (in), 7 OUT 2 (out)

## AD8042AR
designator U?
Double Channel Low Power Operational Amplifier, 170 MHz BW, 225 V/us SR, Industrial, 8-pin SOIC (R-8), Tube; Generic Part Number: AD8042; Manufacturer: Analog Devices; PartNumber: AD8042AR; Amplifiers Per Package: 2; Input Bias Current: 1.2uA; Input Offset Voltage: 3mV; Iq/Amp: 7mA; Small Signal Bandwidth: 170MHz; V Span Max: 12V; V Span Min: 3V; DatasheetVersion: Rev. E; PackageVersion: 060506-A; PackageReference: R-8; PackageDescription: 8-Pin Standard Small Outline Package, Body 3.9 x 4.9 mm, Pitch 1.27 mm; Supplier 1: Digi-Key; Supplier Part Number 1: AD8042AR-ND; Slew Rate: 225V/us; Mounting Technology: Surface Mount; Code_JEDEC: MS-012-AA; ComponentLink1Description: Manufacturer URL; ComponentLink1URL: http://www.analog.com/en/index.html; ComponentLink2Description: Datasheet; ComponentLink2URL: http://www.analog.com/static/imported-files/data_sheets/AD8042.pdf; ComponentLink3Description: Package Specification; ComponentLink3URL: http://www.analog.com/static/imported-files/packages/PKG_PDF/SOIC_Narrow%20(R)/R_8.pdf; ComponentLink4Description: Reference Circuit; ComponentLink4URL: http://www.analog.com/en/all-operational-amplifiers-op-amps/operational-amplifiers-op-amps/ad8042/products/product.html#product-recommendations
footprint ADI-R-8_N (SOIC, 8-Leads, Body 4.9x3.9mm, Pitch 1.27mm, IPC Medium Density)
footprint ADI-R-8_L (SOIC, 8-Leads, Body 4.9x3.9mm, Pitch 1.27mm, IPC High Density)
footprint ADI-R-8_M (SOIC, 8-Leads, Body 4.9x3.9mm, Pitch 1.27mm, IPC Low Density)
pins on every part: 4 -VS (power), 8 +VS (power)
part A pins: 1 OUT 1 (out), 2 -IN 1 (in), 3 +IN 1 (in)
part B pins: 5 +IN 2 (in), 6 -IN 2 (in), 7 OUT 2 (out)

## AD8042AR-REEL
designator U?
Double Channel Low Power Operational Amplifier, 170 MHz BW, 225 V/us SR, Industrial, 8-pin SOIC (R-8), Reel; Generic Part Number: AD8042; Manufacturer: Analog Devices; PartNumber: AD8042AR-REEL; Amplifiers Per Package: 2; Input Bias Current: 1.2uA; Input Offset Voltage: 3mV; Iq/Amp: 7mA; Small Signal Bandwidth: 170MHz; V Span Max: 12V; V Span Min: 3V; DatasheetVersion: Rev. E; PackageVersion: 060506-A; PackageReference: R-8; PackageDescription: 8-Pin Standard Small Outline Package, Body 3.9 x 4.9 mm, Pitch 1.27 mm; Supplier 1: Digi-Key; Supplier Part Number 1: AD8042AR-REEL-ND; Supplier 2: Newark; Supplier Part Number 2: 09B6392; Slew Rate: 225V/us; Mounting Technology: Surface Mount; Code_JEDEC: MS-012-AA; ComponentLink1Description: Manufacturer URL; ComponentLink1URL: http://www.analog.com/en/index.html; ComponentLink2Description: Datasheet; ComponentLink2URL: http://www.analog.com/static/imported-files/data_sheets/AD8042.pdf; ComponentLink3Description: Package Specification; ComponentLink3URL: http://www.analog.com/static/imported-files/packages/PKG_PDF/SOIC_Narrow%20(R)/R_8.pdf; ComponentLink4Description: Reference Circuit; ComponentLink4URL: http://www.analog.com/en/all-operational-amplifiers-op-amps/operational-amplifiers-op-amps/ad8042/products/product.html#product-recommendations
footprint ADI-R-8_N (SOIC, 8-Leads, Body 4.9x3.9mm, Pitch 1.27mm, IPC Medium Density)
footprint ADI-R-8_L (SOIC, 8-Leads, Body 4.9x3.9mm, Pitch 1.27mm, IPC High Density)
footprint ADI-R-8_M (SOIC, 8-Leads, Body 4.9x3.9mm, Pitch 1.27mm, IPC Low Density)
pins on every part: 4 -VS (power), 8 +VS (power)
part A pins: 1 OUT 1 (out), 2 -IN 1 (in), 3 +IN 1 (in)
part B pins: 5 +IN 2 (in), 6 -IN 2 (in), 7 OUT 2 (out)

## AD8042AR-REEL7
designator U?
Double Channel Low Power Operational Amplifier, 170 MHz BW, 225 V/us SR, Industrial, 8-pin SOIC (R-8), Reel; Generic Part Number: AD8042; Manufacturer: Analog Devices; PartNumber: AD8042AR-REEL7; Amplifiers Per Package: 2; Input Bias Current: 1.2uA; Input Offset Voltage: 3mV; Iq/Amp: 7mA; Small Signal Bandwidth: 170MHz; V Span Max: 12V; V Span Min: 3V; DatasheetVersion: Rev. E; PackageVersion: 060506-A; PackageReference: R-8; PackageDescription: 8-Pin Standard Small Outline Package, Body 3.9 x 4.9 mm, Pitch 1.27 mm; Supplier 1: Digi-Key; Supplier Part Number 1: AD8042AR-REEL7-ND; Supplier 2: Newark; Supplier Part Number 2: 09B6393; Slew Rate: 225V/us; Mounting Technology: Surface Mount; Code_JEDEC: MS-012-AA; ComponentLink1Description: Manufacturer URL; ComponentLink1URL: http://www.analog.com/en/index.html; ComponentLink2Description: Datasheet; ComponentLink2URL: http://www.analog.com/static/imported-files/data_sheets/AD8042.pdf; ComponentLink3Description: Package Specification; ComponentLink3URL: http://www.analog.com/static/imported-files/packages/PKG_PDF/SOIC_Narrow%20(R)/R_8.pdf; ComponentLink4Description: Reference Circuit; ComponentLink4URL: http://www.analog.com/en/all-operational-amplifiers-op-amps/operational-amplifiers-op-amps/ad8042/products/product.html#product-recommendations
footprint ADI-R-8_N (SOIC, 8-Leads, Body 4.9x3.9mm, Pitch 1.27mm, IPC Medium Density)
footprint ADI-R-8_L (SOIC, 8-Leads, Body 4.9x3.9mm, Pitch 1.27mm, IPC High Density)
footprint ADI-R-8_M (SOIC, 8-Leads, Body 4.9x3.9mm, Pitch 1.27mm, IPC Low Density)
pins on every part: 4 -VS (power), 8 +VS (power)
part A pins: 1 OUT 1 (out), 2 -IN 1 (in), 3 +IN 1 (in)
part B pins: 5 +IN 2 (in), 6 -IN 2 (in), 7 OUT 2 (out)

## AD8042ARZ
designator U?
Double Channel Low Power Operational Amplifier, 170 MHz BW, 225 V/us SR, Industrial, 8-pin SOIC (R-8), Tube; Generic Part Number: AD8042; Manufacturer: Analog Devices; PartNumber: AD8042ARZ; Amplifiers Per Package: 2; Input Bias Current: 1.2uA; Input Offset Voltage: 3mV; Iq/Amp: 7mA; Small Signal Bandwidth: 170MHz; V Span Max: 12V; V Span Min: 3V; DatasheetVersion: Rev. E; PackageVersion: 060506-A; PackageReference: R-8; PackageDescription: 8-Pin Standard Small Outline Package, Body 3.9 x 4.9 mm, Pitch 1.27 mm; Supplier 1: Digi-Key; Supplier Part Number 1: AD8042ARZ-ND; Supplier 2: Newark; Supplier Part Number 2: 82H2955; Slew Rate: 225V/us; Mounting Technology: Surface Mount; Code_JEDEC: MS-012-AA; ComponentLink1Description: Manufacturer URL; ComponentLink1URL: http://www.analog.com/en/index.html; ComponentLink2Description: Datasheet; ComponentLink2URL: http://www.analog.com/static/imported-files/data_sheets/AD8042.pdf; ComponentLink3Description: Package Specification; ComponentLink3URL: http://www.analog.com/static/imported-files/packages/PKG_PDF/SOIC_Narrow%20(R)/R_8.pdf; ComponentLink4Description: Reference Circuit; ComponentLink4URL: http://www.analog.com/en/all-operational-amplifiers-op-amps/operational-amplifiers-op-amps/ad8042/products/product.html#product-recommendations
footprint ADI-R-8_N (SOIC, 8-Leads, Body 4.9x3.9mm, Pitch 1.27mm, IPC Medium Density)
footprint ADI-R-8_L (SOIC, 8-Leads, Body 4.9x3.9mm, Pitch 1.27mm, IPC High Density)
footprint ADI-R-8_M (SOIC, 8-Leads, Body 4.9x3.9mm, Pitch 1.27mm, IPC Low Density)
pins on every part: 4 -VS (power), 8 +VS (power)
part A pins: 1 OUT 1 (out), 2 -IN 1 (in), 3 +IN 1 (in)
part B pins: 5 +IN 2 (in), 6 -IN 2 (in), 7 OUT 2 (out)

## AD8042ARZ-REEL
designator U?
Double Channel Low Power Operational Amplifier, 170 MHz BW, 225 V/us SR, Industrial, 8-pin SOIC (R-8), Reel; Generic Part Number: AD8042; Manufacturer: Analog Devices; PartNumber: AD8042ARZ-REEL; Amplifiers Per Package: 2; Input Bias Current: 1.2uA; Input Offset Voltage: 3mV; Iq/Amp: 7mA; Small Signal Bandwidth: 170MHz; V Span Max: 12V; V Span Min: 3V; DatasheetVersion: Rev. E; PackageVersion: 060506-A; PackageReference: R-8; PackageDescription: 8-Pin Standard Small Outline Package, Body 3.9 x 4.9 mm, Pitch 1.27 mm; Supplier 1: Digi-Key; Supplier Part Number 1: AD8042ARZ-REEL-ND; Supplier 2: Newark; Supplier Part Number 2: 82H2956; Slew Rate: 225V/us; Mounting Technology: Surface Mount; Code_JEDEC: MS-012-AA; ComponentLink1Description: Manufacturer URL; ComponentLink1URL: http://www.analog.com/en/index.html; ComponentLink2Description: Datasheet; ComponentLink2URL: http://www.analog.com/static/imported-files/data_sheets/AD8042.pdf; ComponentLink3Description: Package Specification; ComponentLink3URL: http://www.analog.com/static/imported-files/packages/PKG_PDF/SOIC_Narrow%20(R)/R_8.pdf; ComponentLink4Description: Reference Circuit; ComponentLink4URL: http://www.analog.com/en/all-operational-amplifiers-op-amps/operational-amplifiers-op-amps/ad8042/products/product.html#product-recommendations
footprint ADI-R-8_N (SOIC, 8-Leads, Body 4.9x3.9mm, Pitch 1.27mm, IPC Medium Density)
footprint ADI-R-8_L (SOIC, 8-Leads, Body 4.9x3.9mm, Pitch 1.27mm, IPC High Density)
footprint ADI-R-8_M (SOIC, 8-Leads, Body 4.9x3.9mm, Pitch 1.27mm, IPC Low Density)
pins on every part: 4 -VS (power), 8 +VS (power)
part A pins: 1 OUT 1 (out), 2 -IN 1 (in), 3 +IN 1 (in)
part B pins: 5 +IN 2 (in), 6 -IN 2 (in), 7 OUT 2 (out)